# Altium schematic symbol library 2019-05-21_17-42-16.SchLib: 2 symbols
Pins are listed as number, name and electrical type; pins without a type are passive.

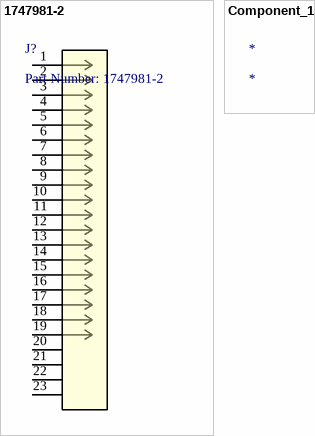
[diagram p0: symbols 1747981-2 to Component_1]

## 1747981-2
designator J?, comment Part Number: 1747981-2
HDMI RECEPTACLE ASSY SMT; Vendor: TE Connectivity; PITCH(MM): 1; POSITIONS: 19; Built_By: EMA_UL_Team; Copyright: Copyright (C) 2016 Accelerated Designs. All rights reserved; Manufacturer_Part_Number: 1747981-2; TE_Part_Number: 1747981-2; PRODUCT: Connector; Type: DEV; ROWS/CONFIG: -; RefDes: RefDes; Value: Value
footprint CON19_1747981_NB
pins: 1, 2, 3, 4, 5, 6, 7, 8, 9, 10, 11, 12, 13, 14, 15, 16, 17, 18, 19, 20, 21, 22, 23

## Component_1
designator *